# Altium integrated library PMP40182.IntLib: 56 symbols (part 1 of 2)
Pins are listed as number, name and electrical type; pins without a type are passive.

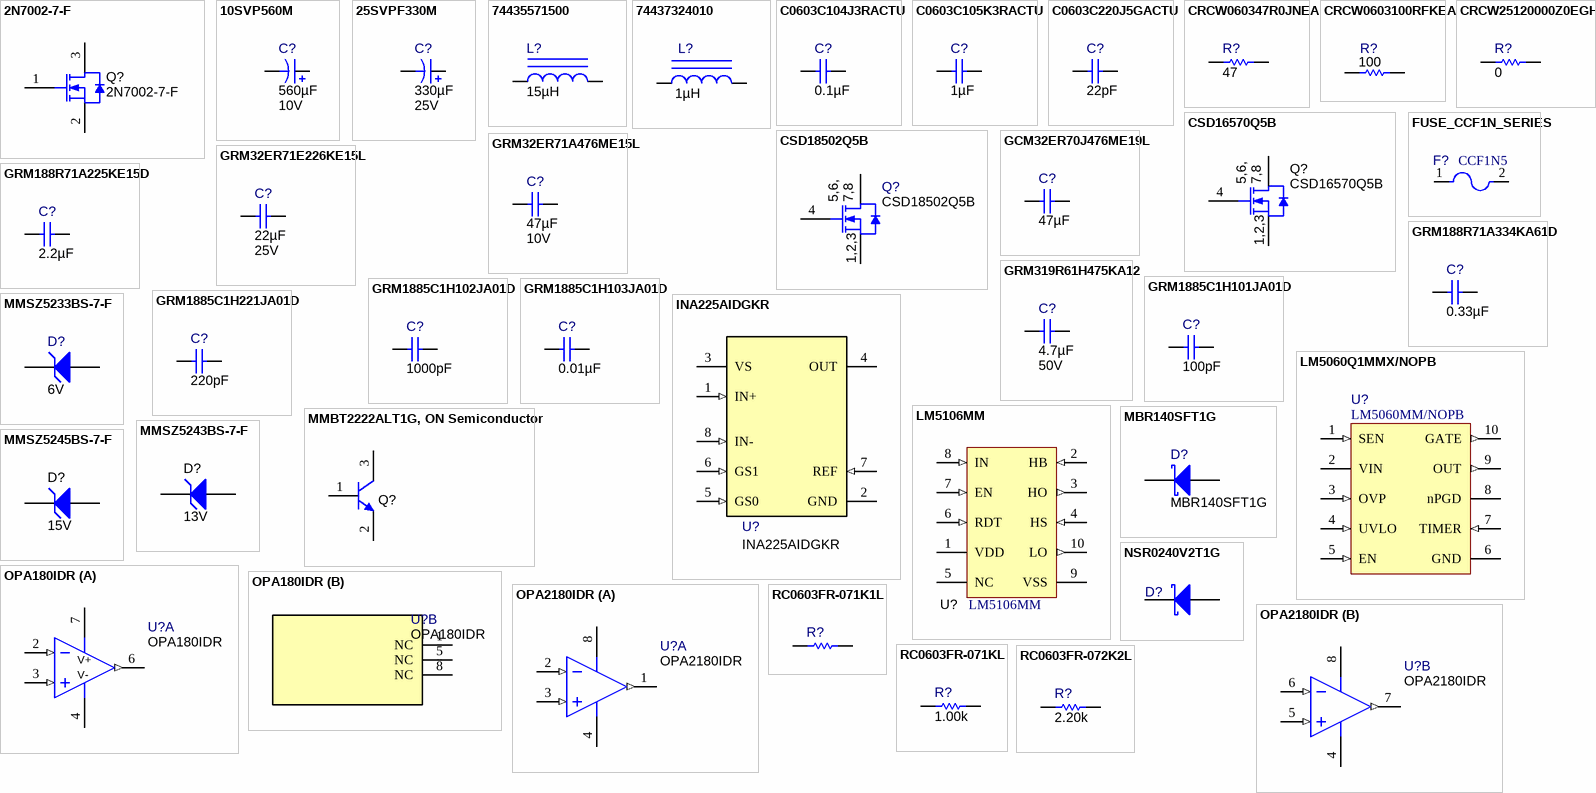
[diagram p0: symbols 2N7002-7-F to RC0603FR-072K2L]

## 2N7002-7-F
designator Q?
MOSFET, N-CH, 60 V, 0.17 A, SOT-23; Manufacturer: Diodes Inc.; Alternate Manufacturer: None; U/M: EA; ChType: N; Value: 60V; VdsMax_V: 60; Value1: 7.5 ohm; Rdson45_ohm: 7.5; Value2: 223 nC; QgTyp_nC: 223; Vgs_V: 20; IdsMax_A: 0.17; SizeAreaWB_mm2: 14; SizeX_mm: 2.5; SizeY_mm: 3; SizeZ_mm: 1.1; AEC Category: Q101; SymbolVersion: 2008-07-28; CompType: MOSFET; PartNumber: 2N7002-7-F; PackageReference: SOT-23; SizeArea_mm2: 7.5; RoHS: Y; MountType: SMT; Published: 2008-06-19; Publisher: Texas Instruments; LatestRevisionDate: 2016-09-23; LatestRevisionNote: Added parts.; ComponentLink1Description: Datasheet link; ComponentLink1URL: http://www.diodes.com/datasheets/ds11303.pdf; Supplier 1: Digi-Key; Supplier Part Number 1: 2N7002-FDICT-ND; Supplier 2: Mouser; Supplier Part Number 2: 621-2N7002-F; Supplier 3: Farnell; Supplier Part Number 3: 1713823; AEC Qualified: ?
footprint SOT-23
footprint SOT-23M
footprint SOT-23L
pins: 1 G, 2 S, 3 D

## 10SVP560M
designator C?  ValueDisplayed: 560µF  Value2: 10V  (hidden comment: 10SVP560M)
CAP, Aluminum Polymer, 560 µF, 10 V, +/- 20%, 0.013 ohm, 10x10.3 SMD; Manufacturer: Panasonic; Polarized: Y; CompType: Capacitor; Value: 560uF; U/M: EA; Cap_F: 0.00056; Tolerance_%: 20; VDC_V: 10; ESR_ohm: 0.013; IRMS_A: 5.23; TaMin_C: -55; TaMax_C: 105; Cap_Case: 10.3x10.3x12.6; SizeAreaWB_mm2: 159.9; SizeArea_mm2: 113.3; SizeX_mm: 11; SizeY_mm: 10.3; SizeZ_mm: 7.7; AEC Category: Q200; SymbolVersion: 2008-07-09; PartNumber: 10SVP560M; PackageReference: 10x10.3; RoHS: Y; Value1: 0.013 ohm; MountType: SMT; Technology: Aluminum Polymer; Series: SVP; Publisher: Texas Instruments; LatestRevisionDate: 2016-09-20; ComponentLink1Description: Datasheet link; ComponentLink1URL: https://industrial.panasonic.com/content/data/CP/PDF/OS-CON/S_OS-CON_SVP_e.pdf; AEC Qualified: ?
signal-integrity model Cap
simulation model Cap
footprint SM_RADIAL_10AMM
pins: 1 +, 2 -

## 25SVPF330M
designator C?  ValueDisplayed: 330µF  Value2: 25V  (hidden comment: 25SVPF330M)
CAP, Aluminum Polymer, 330 µF, 25 V, +/- 20%, 0.014 ohm, F12, SMD, 2-Leads, Body 10.5x10.5mm, Height 12.7mm SMD; Manufacturer: Panasonic; Polarized: Y; CompType: Capacitor; Value: 330uF; U/M: EA; Cap_F: 0.00033; Tolerance_%: 20; VDC_V: 25; ESR_ohm: 0.014; IRMS_A: 5; TaMin_C: -55; TaMax_C: 105; SizeAreaWB_mm2: 151.29; SizeArea_mm2: 106.09; SizeX_mm: 10.3; SizeZ_mm: 12.6; AEC Category: Q200; AEC Qualified: N; SymbolVersion: 2008-07-09; PartNumber: 25SVPF330M; PackageReference: F12, SMD, 2-Leads, Body 10.5x10.5mm, Height 12.7mm; RoHS: Y; Value1: 0.014 ohm; MountType: SMT; Technology: Aluminum Polymer; Series: SVPF; Cap_Case: F12; SizeY_mm: 10.3; Publisher: Texas Instruments; LatestRevisionDate: 2016-12-22; ComponentLink1Description: Datasheet link; ComponentLink1URL: http://industrial.panasonic.com/www-data/pdf/AAB8000/AAB8000CE1.pdf; AEC Grade: N/A
signal-integrity model Cap
simulation model Cap
footprint CAPSMT_62_F12
pins: 1 +, 2 -

## 74435571500
designator L?  ValueDisplayed: 15µH  (hidden comment: 74435571500)
Inductor, Shielded Drum Core, Ferrite, 15 µH, 14 A, 0.009 ohm, SMD; Manufacturer: Wurth Elektronik; Value: 15uH; Ind_H: 15.0E-6; Imax_A: 14; Irms: 14A @ 50C rise; Isat: 14A @ 30% inductance drop; DCR_ohm: 0.009; Value2: 14A; AEC Category: Q200; SymbolVersion: 2008-07-23; CompType: Inductor; PartNumber: 74435571500; Value1: 0.009 ohm; Technology: Shielded Drum Core; MountType: SMT; Material: Ferrite; PackageReference: 18.3x8.9x18.2mm; Published: 2008-06-26; Publisher: Texas Instruments; LatestRevisionDate: 2016-09-07; ComponentLink1Description: Datasheet link; ComponentLink1URL: http://katalog.we-online.de/pbs/datasheet/74435571500.pdf; RoHS: Y; Supplier 1: Digi-Key; Supplier Part Number 1: 732-2176-1-ND; Supplier 2: Mouser; Supplier Part Number 2: 710-74435571500; Supplier 3: Farnell; Supplier Part Number 3: 1869770; AEC Qualified: ?
signal-integrity model Inductor
simulation model Inductor
footprint WE-HCB_1890
pins: 1, 2

## 74437324010
designator L?  ValueDisplayed: 1µH  (hidden comment: 74437324010)
Inductor, Shielded Drum Core, Powdered Iron, 1 µH, 5 A, 0.022 ohm, SMD; Manufacturer: Wurth Elektronik; Value: 1uH; Ind_H: 1.0E-6; Imax_A: 5; Irms: 5A @ 40C rise; Isat: 9A @ 20% inductance drop; DCR_ohm: 0.022; Value2: 5A; AEC Category: Q200; SymbolVersion: 2008-07-23; CompType: Inductor; PartNumber: 74437324010; Value1: 0.022 ohm; Technology: Shielded Drum Core; MountType: SMT; Material: Powdered Iron; PackageReference: 4.45x1.8x4.06mm; Published: 2008-06-26; Publisher: Texas Instruments; LatestRevisionDate: 2016-09-07; ComponentLink1Description: Datasheet link; ComponentLink1URL: http://katalog.we-online.de/kataloge/eisos/media/pdf/74437324010.pdf; RoHS: Y; Supplier 1: Digi-Key; Supplier Part Number 1: 732-3342-1-ND; AEC Qualified: ?
signal-integrity model Inductor
simulation model Inductor
footprint WE-LHMI_4020
pins: 1, 2

## C0603C104J3RACTU
designator C?  ValueDisplayed: 0.1µF  (hidden comment: C0603C104J3RACTU)
CAP, CERM, 0.1 µF, 25 V, +/- 5%, X7R, 0603; Manufacturer: Kemet; Polarized: N; CompType: Capacitor; Value: 0.1uF; U/M: EA; Cap_F: 0.0000001; Tolerance_%: 5; Value1: Unknown; VDC_V: 25; Value2: 25V; TaMin_C: -55; TaMax_C: 125; Cap_Case: 0603; SizeArea_mm2: 1.28; SizeAreaWB_mm2: 4.68; SizeX_mm: 1.6; SizeY_mm: 0.8; SizeZ_mm: 1; AEC Category: Q200; SymbolVersion: 2008-07-09; PartNumber: C0603C104J3RACTU; PackageReference: 0603; RoHS: Y; MountType: SMT; Technology: Ceramic; TempCo: X7R; Published: 2008-06-19; Publisher: Texas Instruments; LatestRevisionDate: 2016-09-23; ComponentLink1Description: Datasheet link; ComponentLink1URL: http://www.kemet.com/kemet/web/homepage/kechome.nsf/vapubfiles/F3102_Y5V.pdf/$file/F3102_Y5V.pdf; Supplier 1: Digi-Key; Supplier Part Number 1: 399-1282-1-ND; Supplier 2: Mouser; Supplier Part Number 2: 80-C0603C104J3R; Supplier 3: Farnell; Supplier Part Number 3: 1650833; AEC Qualified: ?
signal-integrity model Cap
simulation model Cap
footprint 0603
footprint 0603M
footprint 0603L
footprint 0603_HV
footprint 0603S
pins: 1, 2

## C0603C105K3RACTU
designator C?  ValueDisplayed: 1µF  (hidden comment: C0603C105K3RACTU)
CAP, CERM, 1 µF, 25 V, +/- 10%, X7R, 0603; Manufacturer: Kemet; Polarized: N; CompType: Capacitor; Value: 1uF; U/M: EA; Cap_F: 0.000001; Tolerance_%: 10; Value1: Unknown; VDC_V: 25; Value2: 25V; TaMin_C: -55; TaMax_C: 125; Cap_Case: 0603; SizeArea_mm2: 1.28; SizeAreaWB_mm2: 4.68; SizeX_mm: 1.6; SizeY_mm: 0.8; SizeZ_mm: 1; AEC Category: Q200; SymbolVersion: 2008-07-09; PartNumber: C0603C105K3RACTU; PackageReference: 0603; RoHS: Y; MountType: SMT; Technology: Ceramic; TempCo: X7R; Published: 2008-06-19; Publisher: Texas Instruments; LatestRevisionDate: 2016-09-23; ComponentLink1Description: Datasheet link; ComponentLink1URL: http://capacitoredge.kemet.com/capedge2/DataSheet/Datasheet-C0603C105K3RACTU.pdf?pn=C0603C105K3RACTU; Supplier 1: Digi-Key; Supplier Part Number 1: 399-7376-1-ND; Supplier 2: Mouser; Supplier Part Number 2: 80-C0603C105K3R; Supplier 3: Farnell; Supplier Part Number 3: 2118128; AEC Qualified: ?
signal-integrity model Cap
simulation model Cap
footprint 0603
footprint 0603M
footprint 0603L
footprint 0603_HV
footprint 0603S
pins: 1, 2

## C0603C220J5GACTU
designator C?  ValueDisplayed: 22pF  (hidden comment: C0603C220J5GACTU)
CAP, CERM, 22 pF, 50 V, +/- 5%, C0G/NP0, 0603; Manufacturer: Kemet; Polarized: N; CompType: Capacitor; Value: 22pF; U/M: EA; Cap_F: 0.000000000022; Tolerance_%: 5; Value1: Unknown; VDC_V: 50; Value2: 50V; TaMin_C: -55; TaMax_C: 125; Cap_Case: 0603; SizeArea_mm2: 1.28; SizeAreaWB_mm2: 4.68; SizeX_mm: 1.6; SizeY_mm: 0.8; SizeZ_mm: 1; AEC Category: Q200; SymbolVersion: 2008-07-09; PartNumber: C0603C220J5GACTU; PackageReference: 0603; RoHS: Y; MountType: SMT; Technology: Ceramic; TempCo: C0G/NP0; Published: 2008-06-19; Publisher: Texas Instruments; LatestRevisionDate: 2016-09-23; ComponentLink1Description: Datasheet link; ComponentLink1URL: http://www.kemet.com/kemet/web/homepage/kechome.nsf/vapubfiles/F3102_Y5V.pdf/$file/F3102_Y5V.pdf; Supplier 1: Digi-Key; Supplier Part Number 1: 399-1053-1-ND; Supplier 2: Mouser; Supplier Part Number 2: 80-C0603C220J5G; Supplier 3: Farnell; Supplier Part Number 3: 1414622; AEC Qualified: ?
signal-integrity model Cap
simulation model Cap
footprint 0603
footprint 0603M
footprint 0603L
footprint 0603_HV
footprint 0603S
pins: 1, 2

## CRCW060347R0JNEA
designator R?  ValueDisplayed: 47  (hidden comment: CRCW060347R0JNEA)
RES, 47, 5%, 0.1 W, 0603; Manufacturer: Vishay-Dale; CompType: Resistor; Value: 47; Value_Code: 47R0; Tolerance_%: 5; Power_W: 0.1; Value2: 0.1W; VDC_V: 75; TempCo: 200 ppm/C; SizeArea_mm2: 1.28; SizeX_mm: 1.6; SizeY_mm: 0.8; SizeZ_mm: 1; EIA_Code: E24; U/M: EA; AEC Category: Q200; SymbolVersion: 2009-05-29; PartNumber: CRCW060347R0JNEA; PackageReference: 0603; RoHS: Y; Res_ohm: 47; Value1: 5%; MountType: SMT; Technology: Thick Film; Published: 2008-06-26; Publisher: Texas Instruments; LatestRevisionDate: 2017-03-04; ComponentLink1Description: Datasheet link; ComponentLink1URL: http://www.vishay.com/docs/20035/dcrcwe3.pdf; Supplier 1: Digi-Key; Supplier Part Number 1: 541-47GCT-ND; Supplier 2: Newark; Supplier Part Number 2: 52K8552; Supplier 3: Mouser; Supplier Part Number 3: 71-CRCW0603J-47-E3; AEC Qualified: ?
signal-integrity model Resistor
simulation model Resistor
footprint 0603
footprint 0603M
footprint 0603L
footprint 0603_HV
footprint 0603S
pins: 1, 2

## CRCW0603100RFKEA
designator R?  ValueDisplayed: 100  (hidden comment: CRCW0603100RFKEA)
RES, 100, 1%, 0.1 W, 0603; Manufacturer: Vishay-Dale; CompType: Resistor; Value: 100; Value_Code: 100R; Tolerance_%: 1; Power_W: 0.1; Value2: 0.1W; VDC_V: 75; TempCo: 100 ppm/C; SizeArea_mm2: 1.28; SizeX_mm: 1.6; SizeY_mm: 0.8; EIA_Code: E96; U/M: EA; AEC Category: Q200; SymbolVersion: 2009-05-29; PartNumber: CRCW0603100RFKEA; PackageReference: 0603; RoHS: Y; Res_ohm: 100; Value1: 1%; MountType: SMT; Technology: Thick Film; SizeZ_mm: 1; Published: 2008-06-26; Publisher: Texas Instruments; LatestRevisionDate: 2016-09-18; ComponentLink1Description: Datasheet link; ComponentLink1URL: http://www.vishay.com/docs/20035/dcrcwe3.pdf; Supplier 1: Digi-Key; Supplier Part Number 1: 541-100HCT-ND; Supplier 2: Mouser; Supplier Part Number 2: 71-CRCW0603-100-E3; Supplier 3: Farnell; Supplier Part Number 3: 1469752; AEC Qualified: ?
signal-integrity model Resistor
simulation model Resistor
footprint 0603
footprint 0603M
footprint 0603L
footprint 0603_HV
footprint 0603S
pins: 1, 2

## CRCW25120000Z0EGHP
designator R?  ValueDisplayed: 0  (hidden comment: CRCW25120000Z0EGHP)
RES, 0, 5%, 1.5 W, AEC-Q200 Grade 0, 2512; Manufacturer: Vishay-Dale; CompType: Resistor; Value: 0; Value_Code: 0000; Tolerance_%: 5; Power_W: 1.5; Value2: 1.5W; TempCo: ppm/C; SizeArea_mm2: 20.16; SizeX_mm: 6.3; SizeY_mm: 3.2; SizeZ_mm: 0.71; EIA_Code: E24; U/M: EA; AEC Category: Q200; AEC Qualified: Y; SymbolVersion: 2009-05-29; PartNumber: CRCW25120000Z0EGHP; PackageReference: 2512; RoHS: Y; Res_ohm: 0; Value1: 5%; MountType: SMT; Technology: Thick Film; Published: 2008-06-26; Publisher: Texas Instruments; LatestRevisionDate: 2017-01-21; ComponentLink1Description: Datasheet link; ComponentLink1URL: http://www.vishay.com/docs/20043/crcwhpe3.pdf; Supplier 1: Digi-Key; Supplier Part Number 1: 541-0.0RBCT-ND; Supplier 2: Mouser; Supplier Part Number 2: 71-CRCW25120000Z0EGH; Supplier 3: Farnell; Supplier Part Number 3: 2411555; AEC Grade: 0
signal-integrity model Resistor
simulation model Resistor
footprint 2512
footprint 2512M
footprint 2512L
pins: 1, 2

## CSD16570Q5B
designator Q?
MOSFET, N-CH, 25 V, 100 A, DNK0008A (VSON-CLIP-8); Manufacturer: Texas Instruments; Alternate Manufacturer: None; U/M: EA; ChType: N; Value: 25V; VdsMax_V: 25; Value1: 0.0008 ohm; Rdson45_ohm: 0.0008; Value2: 192 nC; QgTyp_nC: 192; Vgs_V: 20; IdsMax_A: 100; SizeAreaWB_mm2: 56; SizeArea_mm2: 30; SizeX_mm: 6; SizeY_mm: 5; SizeZ_mm: 1; AEC Category: Q101; SymbolVersion: 2011-08-16; PartNumber: CSD16570Q5B; PackageReference: DNK0008A; CompType: MOSFET; RoHS: Y; MountType: SMT; Published: 2008-06-19; Publisher: Texas Instruments; LatestRevisionDate: 2017-03-20; LatestRevisionNote: Added parts.; ComponentLink1Description: Datasheet link; ComponentLink1URL: http://www.ti.com/lit/ds/symlink/csd16570q5b.pdf; Supplier 1: Digi-Key; Supplier Part Number 1: CSD16570Q5B-ND; Supplier 2: Newark; Supplier Part Number 2: 83X7113; Supplier 3: Mouser; Supplier Part Number 3: 595-CSD16570Q5B; AEC Qualified: N
footprint DNK0008A
pins: 1 S, 2 S, 3 S, 4 G, 5 D, 6 D, 7 D, 8 D, 9 D
text: 5,6,; 7,8; 1,2,3

## CSD18502Q5B
designator Q?
MOSFET, N-CH, 40 V, 100 A, SON 5x6mm; Manufacturer: Texas Instruments; Alternate Manufacturer: None; U/M: EA; ChType: N; Value: 40V; VdsMax_V: 40; Value1: 0.0023 ohm; Rdson45_ohm: 0.0023; Value2: 68 nC; QgTyp_nC: 68; Vgs_V: 2.2; IdsMax_A: 100; SizeAreaWB_mm2: 57.51; SizeArea_mm2: 31.11; SizeX_mm: 6.1; SizeY_mm: 5.1; SizeZ_mm: 1.05; AEC Category: Q101; SymbolVersion: 2008-07-09; PartNumber: CSD18502Q5B; PackageReference: SON 5x6mm; CompType: MOSFET; RoHS: Y; MountType: SMT; Published: 2008-06-19; Publisher: Texas Instruments; LatestRevisionDate: 2016-09-23; LatestRevisionNote: Added parts.; ComponentLink1Description: Datasheet link; ComponentLink1URL: http://www.ti.com/lit/ds/symlink/csd18502q5b.pdf; Supplier 1: Digi-Key; Supplier Part Number 1: 296-35629-1-ND; Supplier 2: Mouser; Supplier Part Number 2: 595-CSD18502Q5B; Supplier 3: Newark; Supplier Part Number 3: 55W6152; AEC Qualified: ?
footprint TRANS_NexFET_Q5B
pins: 1 S, 2 S, 3 S, 4 G, 5 D, 6 D, 7 D, 8 D
1 alternate drawing of the same symbol
text: 5,6,; 7,8; 1,2,3

## FUSE_CCF1N_SERIES
designator F?, comment CCF1N5
Fuse, Fast Acting, 50VDC, 20A; Manufacturer: Koanet; Area: 46035; Value: LH-10; ComponentLink1URL: \\vette02\pmp_pcb\pcad_pdf's\ccf_fuse.pdf; ComponentHeight: 0.098 inch; PackageReference: 0.98 x 0.236 inch; SymbolVersion: 07/31/2009 12:17:29; PartNumber: CCF1N5; ComponentLink1Description: AEO Datasheet Link
footprint FUSE_CCF
pins: 1, 2

## GCM32ER70J476ME19L
designator C?  ValueDisplayed: 47µF  (hidden comment: GCM32ER70J476ME19L)
CAP, CERM, 47 µF, 6.3 V, +/- 20%, X7R, 1210; Manufacturer: MuRata; Polarized: N; CompType: Capacitor; Value: 47uF; U/M: EA; Cap_F: 0.000047; Tolerance_%: 20; Value1: Unknown; VDC_V: 6.3; Value2: 6.3V; TaMin_C: -55; TaMax_C: 125; Cap_Case: 1210; SizeArea_mm2: 8; SizeAreaWB_mm2: 14.7; SizeX_mm: 3.2; SizeY_mm: 2.5; SizeZ_mm: 2.8; AEC Category: Q200; SymbolVersion: 2008-07-09; PartNumber: GCM32ER70J476ME19L; PackageReference: 1210; RoHS: Y; MountType: SMT; Technology: Ceramic; TempCo: X7R; Published: 2008-06-19; Publisher: Texas Instruments; LatestRevisionDate: 2016-09-23; ComponentLink1Description: Datasheet link; ComponentLink1URL: http://psearch.murata.com/capacitor/product/GCM32ER70J476ME19%23.pdf; Supplier 1: Digi-Key; Supplier Part Number 1: 490-8064-1-ND; Supplier 2: Mouser; Supplier Part Number 2: GCM32ER70J476ME19L; AEC Qualified: ?
signal-integrity model Cap
simulation model Cap
footprint 1210_280
pins: 1, 2

## GRM32ER71A476ME15L
designator C?  ValueDisplayed: 47µF  Value2: 10V  (hidden comment: GRM32ER71A476ME15L)
CAP, CERM, 47 µF, 10 V, +/- 20%, X7R, 1210; Manufacturer: MuRata; Polarized: N; CompType: Capacitor; Value: 47uF; U/M: EA; Cap_F: 0.000047; Tolerance_%: 20; Value1: Unknown; VDC_V: 10; TaMin_C: -55; TaMax_C: 125; Cap_Case: 1210; SizeArea_mm2: 8; SizeAreaWB_mm2: 14.7; SizeX_mm: 3.2; SizeY_mm: 2.5; SizeZ_mm: 2.7; AEC Category: Q200; SymbolVersion: 2008-07-09; PartNumber: GRM32ER71A476ME15L; PackageReference: 1210; RoHS: Y; MountType: SMT; Technology: Ceramic; TempCo: X7R; Published: 2008-06-19; Publisher: Texas Instruments; LatestRevisionDate: 2016-09-23; ComponentLink1Description: Datasheet link; ComponentLink1URL: http://search.murata.co.jp/Ceramy/image/img/A01X/G101/ENG/GRM32ER71A476ME15-01.pdf; Supplier 1: Digi-Key; Supplier Part Number 1: 490-6543-1-ND; Supplier 2: Mouser; Supplier Part Number 2: 81-GRM32ER71A476ME5L; Supplier 3: Farnell; Supplier Part Number 3: 2362130; AEC Qualified: ?
signal-integrity model Cap
simulation model Cap
footprint 1210_270
footprint 1210_270M
footprint 1210_270L
pins: 1, 2

## GRM32ER71E226KE15L
designator C?  ValueDisplayed: 22µF  Value2: 25V  (hidden comment: GRM32ER71E226KE15L)
CAP, CERM, 22 µF, 25 V, +/- 10%, X7R, 1210; Manufacturer: MuRata; Polarized: N; CompType: Capacitor; Value: 22uF; U/M: EA; Cap_F: 0.000022; Tolerance_%: 10; Value1: Unknown; VDC_V: 25; TaMin_C: -55; TaMax_C: 125; Cap_Case: 1210; SizeArea_mm2: 8; SizeAreaWB_mm2: 14.7; SizeX_mm: 3.2; SizeY_mm: 2.5; SizeZ_mm: 2.7; AEC Category: Q200; SymbolVersion: 2008-07-09; PartNumber: GRM32ER71E226KE15L; PackageReference: 1210; RoHS: Y; MountType: SMT; Technology: Ceramic; TempCo: X7R; Published: 2008-06-19; Publisher: Texas Instruments; LatestRevisionDate: 2016-09-23; ComponentLink1Description: Datasheet link; ComponentLink1URL: http://search.murata.co.jp/Ceramy/PnsearchViewAction.do?HnOFG=ON&HnNFG=ON&SEL_CNT=50&sLang=en&sKey=GRM32ER71E226KE15L&x=9&y=9&search=startwith; Supplier 1: Digi-Key; Supplier Part Number 1: 490-5313-1-ND; Supplier 2: Mouser; Supplier Part Number 2: 81-GRM32ER71E226KE5L; Supplier 3: Farnell; Supplier Part Number 3: 1797019; AEC Qualified: ?
signal-integrity model Cap
simulation model Cap
footprint 1210_270
footprint 1210_270M
footprint 1210_270L
pins: 1, 2

## GRM188R71A225KE15D
designator C?  ValueDisplayed: 2.2µF  (hidden comment: GRM188R71A225KE15D)
CAP, CERM, 2.2 µF, 10 V, +/- 10%, X7R, 0603; Manufacturer: MuRata; Polarized: N; CompType: Capacitor; Value: 2.2uF; U/M: EA; Cap_F: 0.0000022; Tolerance_%: 10; ESR_ohm: 0.009; Value1: 0.009 ohm; Value2: 10V; TaMin_C: -55; TaMax_C: 125; Cap_Case: 0603; SizeArea_mm2: 1.28; SizeAreaWB_mm2: 4.68; SizeX_mm: 1.6; SizeY_mm: 0.8; SizeZ_mm: 1; AEC Category: Q200; SymbolVersion: 2008-07-09; PartNumber: GRM188R71A225KE15D; PackageReference: 0603; RoHS: Y; VDC_V: 10; MountType: SMT; Technology: Ceramic; TempCo: X7R; Published: 2008-06-19; Publisher: Texas Instruments; LatestRevisionDate: 2017-03-17; ComponentLink1Description: Datasheet link; ComponentLink1URL: http://search.murata.co.jp/Ceramy/PnsearchViewAction.do?HnOFG=ON&HnNFG=ON&SEL_CNT=50&sLang=en&sKey=GRM188R71A225KE15D&x=9&y=9&search=startwith; Supplier 1: Digi-Key; Supplier Part Number 1: 490-4520-1-ND; Supplier 2: Mouser; Supplier Part Number 2: 81-GRM188R71A225KE15; Supplier 3: Farnell; Supplier Part Number 3: 1797012; AEC Qualified: ?
signal-integrity model Cap
simulation model Cap
footprint 0603
footprint 0603M
footprint 0603L
footprint 0603_HV
footprint 0603S
pins: 1, 2

## GRM188R71A334KA61D
designator C?  ValueDisplayed: 0.33µF  (hidden comment: GRM188R71A334KA61D)
CAP, CERM, 0.33 µF, 10 V, +/- 10%, X7R, 0603; Manufacturer: MuRata; Polarized: N; CompType: Capacitor; Value: 0.33uF; U/M: EA; Cap_F: 0.00000033; Tolerance_%: 10; Value1: Unknown; Value2: 10V; TaMin_C: -55; TaMax_C: 125; Cap_Case: 0603; SizeArea_mm2: 1.28; SizeAreaWB_mm2: 4.68; SizeX_mm: 1.6; SizeY_mm: 0.8; SizeZ_mm: 1; AEC Category: Q200; SymbolVersion: 2008-07-09; PartNumber: GRM188R71A334KA61D; PackageReference: 0603; RoHS: Y; VDC_V: 10; MountType: SMT; Technology: Ceramic; TempCo: X7R; Published: 2008-06-19; Publisher: Texas Instruments; LatestRevisionDate: 2017-03-17; ComponentLink1Description: Datasheet link; ComponentLink1URL: http://search.murata.co.jp/Ceramy/PnsearchViewAction.do?HnOFG=ON&HnNFG=ON&SEL_CNT=50&sLang=en&sKey=GRM188R71A334KA61D&x=9&y=9&search=startwith; Supplier 1: Digi-Key; Supplier Part Number 1: GRM188R71A334KA61D-ND; Supplier 2: Mouser; Supplier Part Number 2: 81-GRM188R71A334KA1D; AEC Qualified: ?
signal-integrity model Cap
simulation model Cap
footprint 0603
footprint 0603M
footprint 0603L
footprint 0603_HV
footprint 0603S
pins: 1, 2

## GRM319R61H475KA12
designator C?  ValueDisplayed: 4.7µF  Value2: 50V  (hidden comment: GRM319R61H475KA12)
CAP, CERM, 4.7 µF, 50 V, +/- 10%, X5R, 1206; Manufacturer: MuRata; Polarized: N; CompType: Capacitor; Value: 4.7uF; U/M: EA; Cap_F: 0.0000047; Tolerance_%: 10; Value1: Unknown; VDC_V: 50; TaMin_C: -55; TaMax_C: 85; Cap_Case: 1206; SizeArea_mm2: 5.12; SizeAreaWB_mm2: 10.92; SizeX_mm: 3.2; SizeY_mm: 1.6; SizeZ_mm: 1.35; AEC Category: Q200; SymbolVersion: 2008-07-09; PartNumber: GRM319R61H475KA12; PackageReference: 1206; RoHS: Y; MountType: SMT; Technology: Ceramic; TempCo: X5R; Published: 2008-06-19; Publisher: Texas Instruments; LatestRevisionDate: 2016-09-23; ComponentLink1Description: Datasheet link; ComponentLink1URL: http://psearch.murata.com/capacitor/product/GRM319R61H475KA12%23.pdf; Supplier 1: Farnell; Supplier Part Number 1: 1845761; Supplier 2: Newark; Supplier Part Number 2: 13T1225; AEC Qualified: ?
signal-integrity model Cap
simulation model Cap
footprint 1206
footprint 1206M
footprint 1206L
pins: 1, 2

## GRM1885C1H101JA01D
designator C?  value 100pF  (hidden comment: GRM1885C1H101JA01D)
CAP, CERM, 100 pF, 50 V, +/- 5%, C0G/NP0, 0603; Manufacturer: MuRata; Polarized: N; CompType: Capacitor; U/M: EA; Cap_F: 0.0000000001; Tolerance_%: 5; Value1: Unknown; VDC_V: 50; Value2: 50V; TaMin_C: -55; TaMax_C: 125; Cap_Case: 0603; SizeArea_mm2: 1.28; SizeAreaWB_mm2: 4.68; SizeX_mm: 1.6; SizeY_mm: 0.8; SizeZ_mm: 1; AEC Category: Q200; SymbolVersion: 2008-07-09; PartNumber: GRM1885C1H101JA01D; ValueDisplayed: 100pF; PackageReference: 0603; RoHS: Y; MountType: SMT; Technology: Ceramic; TempCo: C0G/NP0; Published: 2008-06-19; Publisher: Texas Instruments; LatestRevisionDate: 2016-09-23; ComponentLink1Description: Datasheet link; ComponentLink1URL: http://search.murata.co.jp/Ceramy/PnsearchViewAction.do?HnOFG=ON&HnNFG=ON&SEL_CNT=50&sLang=en&sKey=GRM1885C1H101JA01D&x=9&y=9&search=startwith; Supplier 1: Digi-Key; Supplier Part Number 1: 490-1427-1-ND; Supplier 2: Mouser; Supplier Part Number 2: 81-GRM39C101J50; Supplier 3: Farnell; Supplier Part Number 3: 8819866; AEC Qualified: ?
signal-integrity model Cap
simulation model Cap
footprint 0603
footprint 0603M
footprint 0603L
footprint 0603_HV
footprint 0603S
pins: 1, 2

## GRM1885C1H102JA01D
designator C?  ValueDisplayed: 1000pF  (hidden comment: GRM1885C1H102JA01D)
CAP, CERM, 1000 pF, 50 V, +/- 5%, C0G/NP0, 0603; Manufacturer: MuRata; Polarized: N; CompType: Capacitor; Value: 1000pF; U/M: EA; Cap_F: 0.000000001; Tolerance_%: 5; Value1: Unknown; VDC_V: 50; Value2: 50V; TaMin_C: -55; TaMax_C: 125; Cap_Case: 0603; SizeArea_mm2: 1.28; SizeAreaWB_mm2: 4.68; SizeX_mm: 1.6; SizeY_mm: 0.8; SizeZ_mm: 1; AEC Category: Q200; SymbolVersion: 2008-07-09; PartNumber: GRM1885C1H102JA01D; PackageReference: 0603; RoHS: Y; MountType: SMT; Technology: Ceramic; TempCo: C0G/NP0; Published: 2008-06-19; Publisher: Texas Instruments; LatestRevisionDate: 2017-03-17; ComponentLink1Description: Datasheet link; ComponentLink1URL: http://search.murata.co.jp/Ceramy/PnsearchViewAction.do?HnOFG=ON&HnNFG=ON&SEL_CNT=50&sLang=en&sKey=GRM1885C1H102JA01D&x=9&y=9&search=startwith; Supplier 1: Digi-Key; Supplier Part Number 1: 490-1451-1-ND; Supplier 2: Mouser; Supplier Part Number 2: 81-GRM39C102J50; Supplier 3: Farnell; Supplier Part Number 3: 8819920; AEC Qualified: ?
signal-integrity model Cap
simulation model Cap
footprint 0603
footprint 0603M
footprint 0603L
footprint 0603_HV
footprint 0603S
pins: 1, 2

## GRM1885C1H103JA01D
designator C?  ValueDisplayed: 0.01µF  (hidden comment: GRM1885C1H103JA01D)
CAP, CERM, 0.01 µF, 50 V, +/- 5%, C0G/NP0, 0603; Manufacturer: MuRata; Polarized: N; CompType: Capacitor; Value: 0.01uF; U/M: EA; Cap_F: 0.00000001; Tolerance_%: 5; Value1: Unknown; VDC_V: 50; Value2: 50V; TaMin_C: -55; TaMax_C: 125; Cap_Case: 0603; SizeArea_mm2: 1.28; SizeAreaWB_mm2: 4.68; SizeX_mm: 1.6; SizeY_mm: 0.8; SizeZ_mm: 1; AEC Category: Q200; SymbolVersion: 2008-07-09; PartNumber: GRM1885C1H103JA01D; PackageReference: 0603; RoHS: Y; MountType: SMT; Technology: Ceramic; TempCo: C0G/NP0; Published: 2008-06-19; Publisher: Texas Instruments; LatestRevisionDate: 2017-03-10; ComponentLink1Description: Datasheet link; ComponentLink1URL: http://search.murata.co.jp/Ceramy/image/img/A01X/G101/ENG/GRM1885C1H103JA01-01.pdf; Supplier 1: Digi-Key; Supplier Part Number 1: 490-9666-1-ND; Supplier 2: Newark; Supplier Part Number 2: 31Y1764; Supplier 3: Mouser; Supplier Part Number 3: 81-GRM1885C1H103JA1D; AEC Qualified: N; AEC Grade: N/A
signal-integrity model Cap
simulation model Cap
footprint 0603
footprint 0603M
footprint 0603L
footprint 0603_HV
footprint 0603S
pins: 1, 2

## GRM1885C1H221JA01D
designator C?  ValueDisplayed: 220pF  (hidden comment: GRM1885C1H221JA01D)
CAP, CERM, 220 pF, 50 V, +/- 5%, C0G/NP0, 0603; Manufacturer: MuRata; Polarized: N; CompType: Capacitor; Value: 220pF; U/M: EA; Cap_F: 0.00000000022; Tolerance_%: 5; Value1: Unknown; VDC_V: 50; Value2: 50V; TaMin_C: -55; TaMax_C: 125; Cap_Case: 0603; SizeArea_mm2: 1.28; SizeAreaWB_mm2: 4.68; SizeX_mm: 1.6; SizeY_mm: 0.8; SizeZ_mm: 1; AEC Category: Q200; SymbolVersion: 2008-07-09; PartNumber: GRM1885C1H221JA01D; PackageReference: 0603; RoHS: Y; MountType: SMT; Technology: Ceramic; TempCo: C0G/NP0; Published: 2008-06-19; Publisher: Texas Instruments; LatestRevisionDate: 2017-03-17; ComponentLink1Description: Datasheet link; ComponentLink1URL: http://search.murata.co.jp/Ceramy/PnsearchViewAction.do?HnOFG=ON&HnNFG=ON&SEL_CNT=50&sLang=en&sKey=GRM1885C1H221JA01D&x=9&y=9&search=startwith; Supplier 1: Digi-Key; Supplier Part Number 1: 490-1435-1-ND; Supplier 2: Mouser; Supplier Part Number 2: 81-GRM39C221J50; Supplier 3: Farnell; Supplier Part Number 3: 8819882; AEC Qualified: ?
signal-integrity model Cap
simulation model Cap
footprint 0603
footprint 0603M
footprint 0603L
footprint 0603_HV
footprint 0603S
pins: 1, 2

## INA225AIDGKR
designator U?
36-V, Programmable-Gain, Voltage-Output, Bidirectional, Zero-Drift Series, Current-Shunt Monitor, DGK0008A (VSSOP-8); Alternate PartNumber: INA225AIDGKT; Manufacturer: Texas Instruments; SymbolCreator: a0799628; SizeArea_mm2: 15.655; SizeAreaWB_mm2: 35.955; SizeX_mm: 5.05; SizeY_mm: 3.1; SizeZ_mm: 1.1; CompType: IC; U/M: EA; SymbolVersion: 2016-3-1; PartNumber: INA225AIDGKR; PackageReference: DGK0008A; PackageDescription: VSSOP-8; MountType: SMT; ComponentLink1Description: Datasheet Link; ComponentLink1URL: http://www.ti.com/lit/ds/symlink/ina225.pdf; RoHS: Y; Publisher: Texas Instruments; LatestRevisionDate: 2016-09-25; Alternate Manufacturer: Texas Instruments
footprint DGK0008A_N
footprint DGK0008A_M
footprint DGK0008A_L
pins: 1 IN+ (in), 2 GND (power), 3 VS (power), 4 OUT (power), 5 GS0 (in), 6 GS1 (in), 7 REF (in), 8 IN- (in)

## LM5060Q1MMX/NOPB
designator U?, comment LM5060MM/NOPB
High-Side Protection Controller with Low Quiescent Current, 10-pin MSOP, Pb-Free; Manufacturer: Texas Instruments; CompType: Switcher; PackageTopMarking: ZXTT*SZAB; PowerWise: N; PartNumber: LM5060MM/NOPB; PackageReference: MUB10A; PackageDescription: Mini-SO, Molded, .118 x .118 x .034in Body, 10 Lead, .0197in Pitch; ComponentLink1Description: LM5060 Datasheet; ComponentLink1URL: http://www.national.com/ds/LM/LM5060.pdf; RoHS: Y; Publisher: Altium Limited; Published: 1-Mar-2010; DatasheetVersion: Nov-2009; PackageVersion: revB, Jul-2003; Supplier 1: Digi-Key; Supplier Part Number 1: LM5060MM/NOPB; PinCount: 10; Code_JEDEC: MO-187-BA; ComponentLink2Description: LM5060 Web Page; ComponentLink2URL: http://www.national.com/pf/LM/LM5060.html; ComponentLink3Description: MUB10A Package Page; ComponentLink3URL: http://www.national.com/packaging/folders/mub10a.html
footprint MUB10A_N (TSSOP, 10-Leads, Body 3x3mm, Pitch 0.5mm, IPC Medium Density)
footprint MUB10A_L (TSSOP, 10-Leads, Body 3x3mm, Pitch 0.5mm, IPC High Density)
footprint MUB10A_M (TSSOP, 10-Leads, Body 3x3mm, Pitch 0.5mm, IPC Low Density)
pins: 1 SEN (in), 2 VIN (power), 3 OVP (in), 4 UVLO (in), 5 EN (in), 6 GND (power), 7 TIMER (in), 8 nPGD (oc), 9 OUT (out), 10 GATE (out)

## LM5106MM
designator U?
100V Half Bridge Gate Driver with Programmable Dead-Time, 10-pin MSOP; Manufacturer: Texas Instruments; PackageTopMarking: ZXTT*5106; PowerWise: N; CompType: MiscPower; Published: 4-Dec-2008; DatasheetVersion: Oct-2009; PackageVersion: revB, Jul-2003; PackageReference: MUB10A; Publisher: Altium Limited; PackageDescription: Mini-SO, Molded, .118 x .118 x .034in Body, 10 Lead, .0197in Pitch; Supplier 1: Farnell; Supplier Part Number 1: 1312793; PartNumber: LM5106MM; RoHS: N; PinCount: 10; Code_JEDEC: MO-187-BA; ComponentLink1Description: LM5106 Datasheet; ComponentLink1URL: http://www.national.com/ds/LM/LM5106.pdf; ComponentLink2Description: LM5106 Web Page; ComponentLink2URL: http://www.national.com/pf/LM/LM5106.html; ComponentLink3Description: MUB10A Package Page; ComponentLink3URL: http://www.national.com/packaging/folders/mub10a.html
footprint MUB10A_N (TSSOP, 10-Leads, Body 3x3mm, Pitch 0.5mm, IPC Medium Density)
footprint MUB10A_L (TSSOP, 10-Leads, Body 3x3mm, Pitch 0.5mm, IPC High Density)
footprint MUB10A_M (TSSOP, 10-Leads, Body 3x3mm, Pitch 0.5mm, IPC Low Density)
pins: 1 VDD (power), 2 HB (in), 3 HO (out), 4 HS (in), 5 NC, 6 RDT (in), 7 EN (in), 8 IN (in), 9 VSS (power), 10 LO (out)

## MBR140SFT1G
designator D?
Diode, Schottky, 40 V, 1 A, SOD-123FL; Manufacturer: ON Semiconductor; U/M: EA; Vf_V: 0.55; Value: 40V; Value1: 1A; Value2: 0.55V; Io_A: 1; Vr_V: 40; TJmax_C: 125; RJC_CperW: 26; SizeAreaWB_mm2: 12.19; SizeArea_mm2: 5.94; SizeX_mm: 3.6; SizeY_mm: 1.65; SizeZ_mm: 0.98; AEC Category: Q101; SymbolVersion: 2008-12-08; PartNumber: MBR140SFT1G; PackageReference: SOD-123FL; CompType: Diode; MountType: SMT; Type: Schottky; RoHS: Y; Published: 2008-06-26; Publisher: Texas Instruments; LatestRevisionDate: 2016-12-16; ComponentLink1Description: Datasheet link; ComponentLink1URL: http://www.onsemi.com/pub_link/Collateral/MBR140SFT1-D.PDF; Supplier 1: Digi-Key; Supplier Part Number 1: MBR140SFT1GOSCT-ND; Supplier 2: Mouser; Supplier Part Number 2: 863-MBR140SFT1G; Supplier 3: Farnell; Supplier Part Number 3: 1431046; AEC Qualified: ?
signal-integrity model Diode
simulation model MBR140SFT1
footprint SOD-123FL
pins: 1 K, 2 A

## MMBT2222ALT1G, ON Semiconductor
designator Q?, comment MMBT2222ALT1G  (value not drawn)
Transistor, NPN, 40 V, 0.6 A, SOT-23; Manufacturer: ON Semiconductor; CompType: BJT; PNP: 0; NPN: 1; Vceo_V: 40; Value: 40 V; IcRated_A: 0.6; Value1: 0.6 A; TaMin_C: -55; TaMax_C: 150; SizeAreaWB_mm2: 14; SizeArea_mm2: 7.5; SizeX_mm: 2.5; SizeY_mm: 3; SizeZ_mm: 1.1; U/M: EA; AEC Category: Q101; SymbolVersion: 2008-07-31; PartNumber: MMBT2222ALT1G; PackageReference: SOT-23; RoHS: Y; Vcesat1_V: 1; Published: 2008-07-31; LatestRevisionDate: 2017-03-15; Publisher: Texas Instruments; ComponentLink1Description: Datasheet link; ComponentLink1URL: http://www.onsemi.com/pub_link/Collateral/MMBT2222LT1-D.PDF; Supplier 1: Digi-Key; Supplier Part Number 1: MMBT2222ALT1GOSCT-ND; Supplier 2: Newark; Supplier Part Number 2: 58M9142; Supplier 3: Mouser; Supplier Part Number 3: 863-MMBT2222ALT1G; MountType: SMT; AEC Qualified: ?
footprint SOT-23
footprint SOT-23M
footprint SOT-23L
pins: 1 B, 2 E, 3 C

## MMSZ5233BS-7-F
designator D?, comment 6V
Diode, Zener, 6 V, 200 mW, SOD-323; PartNumber: MMSZ5233BS-7-F; Manufacturer: Diodes Inc.; U/M: EA; Value1: 0.2W; SymbolCreator: a0412235; Power_W: 0.2; Vz_V: 6; RJA_CperW: 350; SizeAreaWB_mm2: 8.695; SizeArea_mm2: 3.645; SizeX_mm: 2.7; SizeY_mm: 1.35; SizeZ_mm: 1; AEC Category: Q101; CompType: Zener; SymbolVersion: 2010-08-25; PackageReference: SOD-323; Value: 6V; Vr_V: N/A; MountType: SMT; RoHS: Y; Published: 2008-10-08; Publisher: Texas Instruments; LatestRevisionDate: 2017-03-18; ComponentLink1Description: Datasheet link; ComponentLink1URL: http://www.diodes.com/datasheets/ds31038.pdf; Supplier 1: Digi-Key; Supplier Part Number 1: MMSZ5233BS-FDICT-ND; Supplier 2: Mouser; Supplier Part Number 2: 621-MMSZ5233BS-7-F; LatestRevisionNote: Updated Supplier Data; AEC Qualified: ?
signal-integrity model Diode
footprint SOD-323
pins: 1 K, 2 A

## MMSZ5243BS-7-F
designator D?  value 13V  (hidden comment: MMSZ5243BS-7-F)
Diode, Zener, 13 V, 200 mW, SOD-323; Manufacturer: Diodes Inc.; SymbolCreator: a0412235; U/M: EA; Power_W: 0.2; Vz_V: 13; Value1: 0.2W; RJA_CperW: 350; SizeAreaWB_mm2: 8.695; SizeArea_mm2: 3.645; SizeX_mm: 2.7; SizeY_mm: 1.35; SizeZ_mm: 1; AEC Category: Q101; SymbolVersion: 2010-08-25; PartNumber: MMSZ5243BS-7-F; PackageReference: SOD-323; CompType: Zener; Vr_V: N/A; MountType: SMT; RoHS: Y; ComponentLink1Description: Datasheet link; ComponentLink1URL: http://www.diodes.com/datasheets/ds31038.pdf; Published: 2008-10-08; Publisher: Texas Instruments; LatestRevisionDate: 2017-03-18; LatestRevisionNote: Updated Supplier Data; Supplier 1: Digi-Key; Supplier Part Number 1: MMSZ5243BS-FDICT-ND; Supplier 2: Mouser; Supplier Part Number 2: 621-MMSZ5243BS-F; AEC Qualified: ?
signal-integrity model Diode
footprint SOD-323
pins: 1 K, 2 A

## MMSZ5245BS-7-F
designator D?  value 15V  (hidden comment: MMSZ5245BS-7-F)
Diode, Zener, 15 V, 200 mW, SOD-323; Manufacturer: Diodes Inc.; SymbolCreator: a0412235; U/M: EA; Power_W: 0.2; Vz_V: 15; Value1: 0.2W; RJA_CperW: 350; SizeAreaWB_mm2: 8.695; SizeArea_mm2: 3.645; SizeX_mm: 2.7; SizeY_mm: 1.35; SizeZ_mm: 1; AEC Category: Q101; SymbolVersion: 2010-08-25; PartNumber: MMSZ5245BS-7-F; PackageReference: SOD-323; CompType: Zener; Vr_V: N/A; MountType: SMT; RoHS: Y; ComponentLink1Description: Datasheet link; ComponentLink1URL: http://www.diodes.com/datasheets/ds31038.pdf; Published: 2008-10-08; Publisher: Texas Instruments; LatestRevisionDate: 2017-03-18; LatestRevisionNote: Updated Supplier Data; Supplier 1: Digi-Key; Supplier Part Number 1: MMSZ5245BS-FDICT-ND; Supplier 2: Mouser; Supplier Part Number 2: 621-MMSZ5245BS-F; AEC Qualified: ?
signal-integrity model Diode
footprint SOD-323
pins: 1 K, 2 A

## NSR0240V2T1G
designator D?  (value not drawn)
Diode, Schottky, 40V, 0.25A, SOD-523; Manufacturer: ON Semiconductor; U/M: EA; Vf_V: 0.7; Value2: 0.7V; Io_A: 0.25; Vr_V: 40; TJmax_C: 150; RJC_CperW: 600; CompType: Diode; SymbolVersion: 2008-12-08; PartNumber: NSR0240V2T1G; PackageReference: SOD-523; Value: 40V; Value1: 0.25A; MountType: SMT; Type: Schottky; RoHS: Y; Published: 2008-06-26; Publisher: Texas Instruments; LatestRevisionDate: 2014-07-21; ComponentLink1Description: Datasheet link; ComponentLink1URL: http://www.onsemi.com/pub_link/Collateral/NSR0240V2T1-D.PDF; Supplier 1: Digi-Key; Supplier Part Number 1: NSR0240V2T1GOSCT-ND; Supplier 2: Mouser; Supplier Part Number 2: 863-NSR0240V2T1G; Supplier 3: Newark; Supplier Part Number 3: 46P8323
signal-integrity model Diode
footprint SOD-523
pins: 1 K, 2 A

## OPA180IDR
designator U?
0.1-uV/degC Drift, Low-Noise, Rail-to-Rail Output, 36-V, Zero-Drift Operational Amplifiers, D0008A (SOIC-8); Manufacturer: Texas Instruments; SymbolCreator: a0411595/a0412235; SizeArea_mm2: 30.38; SizeAreaWB_mm2: 56.58; SizeX_mm: 4.9; SizeY_mm: 6.2; SizeZ_mm: 1.75; CompType: IC; U/M: EA; PartNumber: OPA180IDR; Alternate PartNumber: OPA180ID; PackageReference: D0008A; PackageDescription: SOIC-8; MountType: SMT; ComponentLink1Description: Datasheet Link; ComponentLink1URL: http://www.ti.com/lit/ds/symlink/opa180.pdf; Alternate Manufacturer: Texas Instruments; SymbolVersion: 2015-01-07; RoHS: Y; Publisher: Texas Instruments; LatestRevisionDate: 2016-09-25
footprint D0008A_N
footprint D0008A_M
footprint D0008A_L
part A pins: 2 IN- (in), 3 IN+ (in), 4 V- (power), 6 OUT (out), 7 V+ (power)
part B pins: 1 NC, 5 NC, 8 NC
1 alternate drawing of the same symbol

## OPA2180IDR
designator U?
0.1 uV/degC Drift, Low Noise, Rail-to-Rail Output, Zero-Drift Operational Amplifier, 4 to 36 V, -40 to 105 degC, 8-pin SOIC (D0008A), Green (RoHS & no Sb/Br); Alternate PartNumber: Equivalent; Manufacturer: Texas Instruments; CMRR(Min)(dB): 104; GBW(Typ)(MHz): 2; IIB(Max)(pA): 1000; Iq per channel(Max)(mA): 0.525; Offset Drift(Typ)(uV/C): 0.1; Packing: LARGE T&R; Rating: Catalog; Slew Rate(Typ)(V/us): 0.8; Sub Family: High Supply Voltage Amplifier (>=30V), Low Noise Amp (<=10nV/rtHz), Precision Amplifier, Zero Drift Precision Amplifier; Total Supply Voltage(Max)(+5V is 5, +/-5V is 10): 36; Total Supply Voltage(Min)(+5V is 5, +/-5V is 10): 4; Vio (25C)(Max)(mV): 0.075; PartNumber: OPA2180IDR; PackageReference: D0008A; PackageDescription: 8-Pin Plastic Small Outline, Body 4.9 x 3.9 mm, Pitch 1.27 mm; MountType: SMT; ComponentLink1Description: Manufacturer URL; ComponentLink1URL: http://www.ti.com/; Alternate Manufacturer: Texas Instruments; DatasheetVersion: SBOS584C; PackageVersion: 4040047-3/M, 06/2011; Supplier 1: Digi-Key; Supplier Part Number 1: 296-30072-2-ND; Supplier 2: Digi-Key; Supplier Part Number 2: 296-30072-1-ND; Supplier 3: Digi-Key; Supplier Part Number 3: 296-30072-6-ND; Supplier 4: Newark; Supplier Part Number 4: 76T6830; Supplier 5: Mouser; Supplier Part Number 5: 595-OPA2180IDR; Eco-Plan: Green (RoHS & no Sb/Br); Number of Channels: 2; Code_JEDEC: MS-012; ComponentLink2Description: Datasheet; ComponentLink2URL: http://www.ti.com/lit/ds/symlink/opa2180.pdf; ComponentLink3Description: Package Specification; ComponentLink3URL: http://www.ti.com/litv/pdf/msoi002j
footprint D0008A_N (SOIC, 8-Leads, Body 4.9x3.9mm, Pitch 1.27mm, IPC Medium Density)
footprint D0008A_L (SOIC, 8-Leads, Body 4.9x3.9mm, Pitch 1.27mm, IPC High Density)
footprint D0008A_M (SOIC, 8-Leads, Body 4.9x3.9mm, Pitch 1.27mm, IPC Low Density)
pins on every part: 4 V- (power), 8 V+ (power)
part A pins: 1 OUT A (out), 2 IN A- (in), 3 IN A+ (in)
part B pins: 5 IN B+ (in), 6 IN B- (in), 7 OUT B (out)

## RC0603FR-071K1L
designator R?  (value not drawn)
RES, 1.10 k, 1%, 0.1 W, 0603; Manufacturer: Yageo America; CompType: Resistor; Value: 1.10k; Res_ohm: 1100; Value_Code: 1k10; Tolerance_%: 1; Power_W: 0.1; Value2: 0.1W; VDC_V: 150; TempCo: 200 ppm/C; SizeArea_mm2: 1.28; SizeX_mm: 1.6; SizeY_mm: 0.8; EIA_Code: E96; U/M: EA; AEC Category: Q200; SymbolVersion: 2009-05-29; PartNumber: RC0603FR-071K1L; PackageReference: 0603; RoHS: Y; Value1: 1%; MountType: SMT; Technology: Thick Film; SizeZ_mm: 1; Published: 2008-06-26; Publisher: Texas Instruments; LatestRevisionDate: 2016-09-18; ComponentLink1Description: Datasheet link; ComponentLink1URL: http://www.yageo.com/pdf/Pu-RC0603_51_PbFree_L_2.pdf; Supplier 1: Digi-Key; Supplier Part Number 1: 311-1.10KHRCT-ND; Supplier 2: Mouser; Supplier Part Number 2: 603-RC0603FR-071K1L; Supplier 3: Farnell; Supplier Part Number 3: 1799322; AEC Qualified: ?
signal-integrity model Resistor
simulation model Resistor
footprint 0603
footprint 0603M
footprint 0603L
footprint 0603_HV
footprint 0603S
pins: 1, 2

## RC0603FR-071KL
designator R?  ValueDisplayed: 1.00k  (hidden comment: RC0603FR-071KL)
RES, 1.00 k, 1%, 0.1 W, 0603; Manufacturer: Yageo America; CompType: Resistor; Value: 1.00k; Res_ohm: 1000; Value_Code: 1k00; Tolerance_%: 1; Power_W: 0.1; Value2: 0.1W; VDC_V: 150; TempCo: 200 ppm/C; SizeArea_mm2: 1.28; SizeX_mm: 1.6; SizeY_mm: 0.8; EIA_Code: E96; U/M: EA; AEC Category: Q200; SymbolVersion: 2009-05-29; PartNumber: RC0603FR-071KL; PackageReference: 0603; RoHS: Y; Value1: 1%; MountType: SMT; Technology: Thick Film; SizeZ_mm: 1; Published: 2008-06-26; Publisher: Texas Instruments; LatestRevisionDate: 2017-03-04; ComponentLink1Description: Datasheet link; ComponentLink1URL: http://www.yageo.com/pdf/Pu-RC0603_51_PbFree_L_2.pdf; Supplier 1: Digi-Key; Supplier Part Number 1: 311-1.00KHRCT-ND; Supplier 2: Mouser; Supplier Part Number 2: 603-RC0603FR-071KL; Supplier 3: Farnell; Supplier Part Number 3: 9238484; AEC Qualified: ?
signal-integrity model Resistor
simulation model Resistor
footprint 0603
footprint 0603M
footprint 0603L
footprint 0603_HV
footprint 0603S
pins: 1, 2

## RC0603FR-072K2L
designator R?  ValueDisplayed: 2.20k  (hidden comment: RC0603FR-072K2L)
RES, 2.20 k, 1%, 0.1 W, 0603; Manufacturer: Yageo America; CompType: Resistor; Value: 2.20k; Res_ohm: 2200; Value_Code: 2k20; Tolerance_%: 1; Power_W: 0.1; Value2: 0.1W; VDC_V: 150; TempCo: 200 ppm/C; SizeArea_mm2: 1.28; SizeX_mm: 1.6; SizeY_mm: 0.8; U/M: EA; AEC Category: Q200; SymbolVersion: 2009-05-29; PartNumber: RC0603FR-072K2L; PackageReference: 0603; RoHS: Y; Value1: 1%; MountType: SMT; Technology: Thick Film; SizeZ_mm: 1; Published: 2008-06-26; Publisher: Texas Instruments; LatestRevisionDate: 2017-03-04; ComponentLink1Description: Datasheet link; ComponentLink1URL: http://www.yageo.com/pdf/Pu-RC0603_51_PbFree_L_2.pdf; Supplier 1: Digi-Key; Supplier Part Number 1: 311-2.20KHRCT-ND; Supplier 2: Mouser; Supplier Part Number 2: 603-RC0603FR-072K2L; Supplier 3: Farnell; Supplier Part Number 3: 9238522; AEC Qualified: ?
signal-integrity model Resistor
simulation model Resistor
footprint 0603
footprint 0603M
footprint 0603L
footprint 0603_HV
footprint 0603S
pins: 1, 2

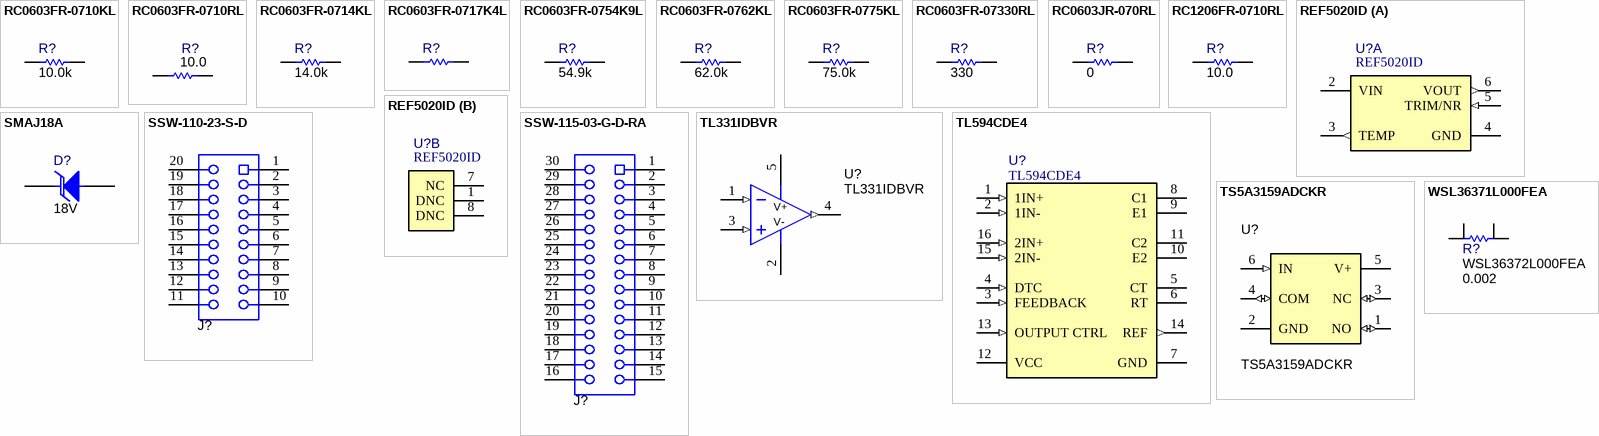
[diagram p1: symbols RC0603FR-0710KL to WSL36371L000FEA]

## RC0603FR-0710KL
designator R?  ValueDisplayed: 10.0k  (hidden comment: RC0603FR-0710KL)
RES, 10.0 k, 1%, 0.1 W, 0603; Manufacturer: Yageo America; CompType: Resistor; Value: 10.0k; Res_ohm: 10000; Value_Code: 10k0; Tolerance_%: 1; Power_W: 0.1; Value2: 0.1W; VDC_V: 150; TempCo: 200 ppm/C; SizeArea_mm2: 1.28; SizeX_mm: 1.6; SizeY_mm: 0.8; EIA_Code: E96; U/M: EA; AEC Category: Q200; SymbolVersion: 2009-05-29; PartNumber: RC0603FR-0710KL; PackageReference: 0603; RoHS: Y; Value1: 1%; MountType: SMT; Technology: Thick Film; SizeZ_mm: 1; Published: 2008-06-26; Publisher: Texas Instruments; LatestRevisionDate: 2016-09-18; ComponentLink1Description: Datasheet link; ComponentLink1URL: http://www.yageo.com/pdf/Pu-RC0603_51_PbFree_L_2.pdf; Supplier 1: Digi-Key; Supplier Part Number 1: 311-10.0KHRCT-ND; Supplier 2: Mouser; Supplier Part Number 2: 603-RC0603FR-0710KL; Supplier 3: Farnell; Supplier Part Number 3: 9238603; AEC Qualified: ?
signal-integrity model Resistor
simulation model Resistor
footprint 0603
footprint 0603M
footprint 0603L
footprint 0603_HV
footprint 0603S
pins: 1, 2

## RC0603FR-0710RL
designator R?  ValueDisplayed: 10.0  (hidden comment: RC0603FR-0710RL)
RES, 10.0, 1%, 0.1 W, 0603; Manufacturer: Yageo America; CompType: Resistor; Value: 10.0; Res_ohm: 10; Value_Code: 10R0; Tolerance_%: 1; Power_W: 0.1; Value2: 0.1W; VDC_V: 150; TempCo: 200 ppm/C; SizeArea_mm2: 1.28; SizeX_mm: 1.6; SizeY_mm: 0.8; EIA_Code: E96; U/M: EA; AEC Category: Q200; SymbolVersion: 2009-05-29; PartNumber: RC0603FR-0710RL; PackageReference: 0603; RoHS: Y; Value1: 1%; MountType: SMT; Technology: Thick Film; SizeZ_mm: 1; Published: 2008-06-26; Publisher: Texas Instruments; LatestRevisionDate: 2016-09-18; ComponentLink1Description: Datasheet link; ComponentLink1URL: http://www.yageo.com/pdf/Pu-RC0603_51_PbFree_L_2.pdf; Supplier 1: Digi-Key; Supplier Part Number 1: 311-10.0HRCT-ND; Supplier 2: Mouser; Supplier Part Number 2: 603-RC0603FR-0710RL; Supplier 3: Farnell; Supplier Part Number 3: 9238247; AEC Qualified: ?
signal-integrity model Resistor
simulation model Resistor
footprint 0603
footprint 0603M
footprint 0603L
footprint 0603_HV
footprint 0603S
pins: 1, 2

## RC0603FR-0714KL
designator R?  ValueDisplayed: 14.0k  (hidden comment: RC0603FR-0714KL)
RES, 14.0 k, 1%, 0.1 W, 0603; Manufacturer: Yageo America; CompType: Resistor; Value: 14.0k; Res_ohm: 14000; Value_Code: 14k0; Tolerance_%: 1; Power_W: 0.1; Value2: 0.1W; VDC_V: 150; TempCo: 200 ppm/C; SizeArea_mm2: 1.28; SizeX_mm: 1.6; SizeY_mm: 0.8; EIA_Code: E96; U/M: EA; AEC Category: Q200; SymbolVersion: 2009-05-29; PartNumber: RC0603FR-0714KL; PackageReference: 0603; RoHS: Y; Value1: 1%; MountType: SMT; Technology: Thick Film; SizeZ_mm: 1; Published: 2008-06-26; Publisher: Texas Instruments; LatestRevisionDate: 2016-09-18; ComponentLink1Description: Datasheet link; ComponentLink1URL: http://www.yageo.com/pdf/Pu-RC0603_51_PbFree_L_2.pdf; Supplier 1: Digi-Key; Supplier Part Number 1: 311-14.0KHRCT-ND; Supplier 2: Mouser; Supplier Part Number 2: 603-RC0603FR-0714KL; AEC Qualified: ?
signal-integrity model Resistor
simulation model Resistor
footprint 0603
footprint 0603M
footprint 0603L
footprint 0603_HV
footprint 0603S
pins: 1, 2

## RC0603FR-0717K4L
designator R?  (value not drawn)
RES, 17.4 k, 1%, 0.1 W, 0603; Manufacturer: Yageo America; CompType: Resistor; Value: 17.4k; Res_ohm: 17400; Value_Code: 17k4; Tolerance_%: 1; Power_W: 0.1; Value2: 0.1W; VDC_V: 150; TempCo: 200 ppm/C; SizeArea_mm2: 1.28; SizeX_mm: 1.6; SizeY_mm: 0.8; EIA_Code: E96; U/M: EA; AEC Category: Q200; SymbolVersion: 2009-05-29; PartNumber: RC0603FR-0717K4L; PackageReference: 0603; RoHS: Y; Value1: 1%; MountType: SMT; Technology: Thick Film; SizeZ_mm: 1; Published: 2008-06-26; Publisher: Texas Instruments; LatestRevisionDate: 2016-12-16; ComponentLink1Description: Datasheet link; ComponentLink1URL: http://www.yageo.com/pdf/Pu-RC0603_51_PbFree_L_2.pdf; Supplier 1: Digi-Key; Supplier Part Number 1: 311-17.4KHRCT-ND; Supplier 2: Mouser; Supplier Part Number 2: 603-RC0603FR-0717K4L; AEC Qualified: ?
signal-integrity model Resistor
simulation model Resistor
footprint 0603
footprint 0603M
footprint 0603L
footprint 0603_HV
footprint 0603S
pins: 1, 2

## RC0603FR-0754K9L
designator R?  ValueDisplayed: 54.9k  (hidden comment: RC0603FR-0754K9L)
RES, 54.9 k, 1%, 0.1 W, 0603; Manufacturer: Yageo America; CompType: Resistor; Value: 54.9k; Res_ohm: 54900; Value_Code: 54k9; Tolerance_%: 1; Power_W: 0.1; Value2: 0.1W; VDC_V: 150; TempCo: 200 ppm/C; SizeArea_mm2: 1.28; SizeX_mm: 1.6; SizeY_mm: 0.8; EIA_Code: E96; U/M: EA; AEC Category: Q200; SymbolVersion: 2009-05-29; PartNumber: RC0603FR-0754K9L; PackageReference: 0603; RoHS: Y; Value1: 1%; MountType: SMT; Technology: Thick Film; SizeZ_mm: 1; Published: 2008-06-26; Publisher: Texas Instruments; LatestRevisionDate: 2016-09-18; ComponentLink1Description: Datasheet link; ComponentLink1URL: http://www.yageo.com/pdf/Pu-RC0603_51_PbFree_L_2.pdf; Supplier 1: Digi-Key; Supplier Part Number 1: 311-54.9KHRCT-ND; Supplier 2: Mouser; Supplier Part Number 2: 603-RC0603FR-0754K9L; AEC Qualified: ?
signal-integrity model Resistor
simulation model Resistor
footprint 0603
footprint 0603M
footprint 0603L
footprint 0603_HV
footprint 0603S
pins: 1, 2

## RC0603FR-0762KL
designator R?  ValueDisplayed: 62.0k  (hidden comment: RC0603FR-0762KL)
RES, 62.0 k, 1%, 0.1 W, 0603; Manufacturer: Yageo America; CompType: Resistor; Value: 62.0k; Res_ohm: 62000; Value_Code: 62k0; Tolerance_%: 1; Power_W: 0.1; Value2: 0.1W; VDC_V: 150; TempCo: 200 ppm/C; SizeArea_mm2: 1.28; SizeX_mm: 1.6; SizeY_mm: 0.8; U/M: EA; AEC Category: Q200; SymbolVersion: 2009-05-29; PartNumber: RC0603FR-0762KL; PackageReference: 0603; RoHS: Y; Value1: 1%; MountType: SMT; Technology: Thick Film; SizeZ_mm: 1; Published: 2008-06-26; Publisher: Texas Instruments; LatestRevisionDate: 2016-09-18; ComponentLink1Description: Datasheet link; ComponentLink1URL: http://www.yageo.com/pdf/Pu-RC0603_51_PbFree_L_2.pdf; Supplier 1: Digi-Key; Supplier Part Number 1: 311-62.0KHRCT-ND; Supplier 2: Mouser; Supplier Part Number 2: 603-RC0603FR-0762KL; AEC Qualified: ?
signal-integrity model Resistor
simulation model Resistor
footprint 0603
footprint 0603M
footprint 0603L
footprint 0603_HV
footprint 0603S
pins: 1, 2

## RC0603FR-0775KL
designator R?  ValueDisplayed: 75.0k  (hidden comment: RC0603FR-0775KL)
RES, 75.0 k, 1%, 0.1 W, 0603; Manufacturer: Yageo America; CompType: Resistor; Value: 75.0k; Res_ohm: 75000; Value_Code: 75k0; Tolerance_%: 1; Power_W: 0.1; Value2: 0.1W; VDC_V: 150; TempCo: 200 ppm/C; SizeArea_mm2: 1.28; SizeX_mm: 1.6; SizeY_mm: 0.8; EIA_Code: E96; U/M: EA; AEC Category: Q200; SymbolVersion: 2009-05-29; PartNumber: RC0603FR-0775KL; PackageReference: 0603; RoHS: Y; Value1: 1%; MountType: SMT; Technology: Thick Film; SizeZ_mm: 1; Published: 2008-06-26; Publisher: Texas Instruments; LatestRevisionDate: 2017-03-04; ComponentLink1Description: Datasheet link; ComponentLink1URL: http://www.yageo.com/pdf/Pu-RC0603_51_PbFree_L_2.pdf; Supplier 1: Digi-Key; Supplier Part Number 1: 311-75.0KHRCT-ND; Supplier 2: Mouser; Supplier Part Number 2: 603-RC0603FR-0775KL; Supplier 3: Farnell; Supplier Part Number 3: 1799354; AEC Qualified: ?
signal-integrity model Resistor
simulation model Resistor
footprint 0603
footprint 0603M
footprint 0603L
footprint 0603_HV
footprint 0603S
pins: 1, 2

## RC0603FR-07330RL
designator R?  ValueDisplayed: 330  (hidden comment: RC0603FR-07330RL)
RES, 330, 1%, 0.1 W, 0603; Manufacturer: Yageo America; CompType: Resistor; Value: 330; Value_Code: 330R; Tolerance_%: 1; Power_W: 0.1; Value2: 0.1W; VDC_V: 150; TempCo: 200 ppm/C; SizeArea_mm2: 1.28; SizeX_mm: 1.6; SizeY_mm: 0.8; U/M: EA; AEC Category: Q200; SymbolVersion: 2009-05-29; PartNumber: RC0603FR-07330RL; PackageReference: 0603; RoHS: Y; Res_ohm: 330; Value1: 1%; MountType: SMT; Technology: Thick Film; SizeZ_mm: 1; Published: 2008-06-26; Publisher: Texas Instruments; LatestRevisionDate: 2017-03-04; ComponentLink1Description: Datasheet link; ComponentLink1URL: http://www.yageo.com/pdf/Pu-RC0603_51_PbFree_L_2.pdf; Supplier 1: Digi-Key; Supplier Part Number 1: 311-330HRCT-ND; Supplier 2: Mouser; Supplier Part Number 2: 603-RC0603FR-07330RL; Supplier 3: Farnell; Supplier Part Number 3: 9238425; AEC Qualified: ?
signal-integrity model Resistor
simulation model Resistor
footprint 0603
footprint 0603M
footprint 0603L
footprint 0603_HV
footprint 0603S
pins: 1, 2